# Altium footprint library DIOM5436X247N.PcbLib: 1 footprints
Each footprint in its own frame and in the unit in brackets; x right, y up, seen from the top. Pads: shape width x height; smd on the part's side, far side on the other; paste and mask are expansions set on the pad; w line width, h text height; cw(c..) or ccw(c..) is an arc to the next point about the centre after c.
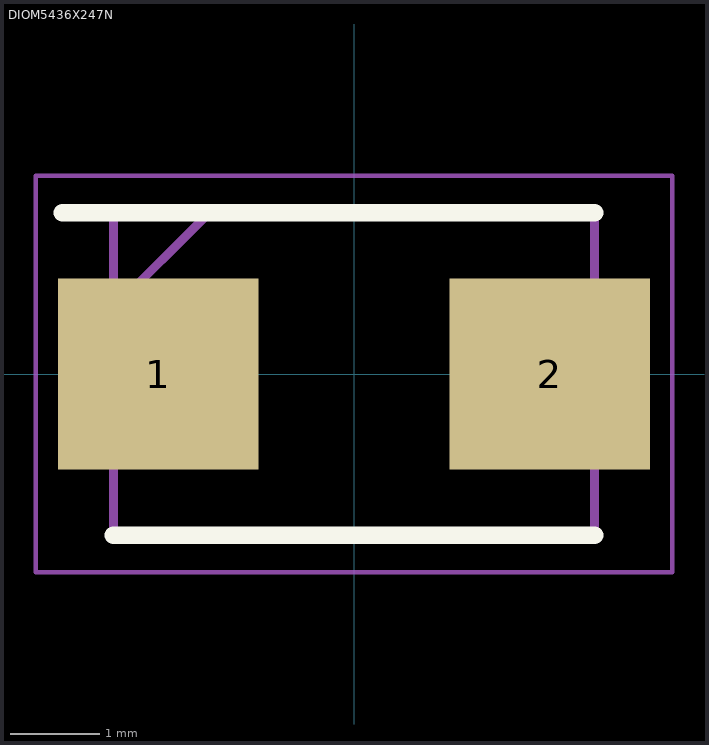
[diagram p0: the footprint, top view; thin cyan lines are the x and y axes]

## DIOM5436X247N [mm]
pads (2):
  rect 2.25x2.15 smd: 1(-2.2,0) 2(2.2,0)
Top Overlay:
  lines w0.2: -3.275,1.812 2.702,1.812 ; -2.702,-1.812 2.702,-1.812
Mechanical 15:
  lines w0.1: -2.702,0.738 -1.628,1.812 ; -2.702,-1.812 2.702,-1.812 2.702,1.812 -2.702,1.812 -2.702,-1.812
Mechanical 20:
  lines w0.05: -3.575,-2.225 3.575,-2.225 3.575,2.225 -3.575,2.225 -3.575,-2.225